# Altium footprint library D 电感.PcbLib: 18 footprints (part 2 of 2)
Each footprint in its own frame and in the unit in brackets; x right, y up, seen from the top. Pads: shape width x height; smd on the part's side, far side on the other; paste and mask are expansions set on the pad; w line width, h text height; cw(c..) or ccw(c..) is an arc to the next point about the centre after c.
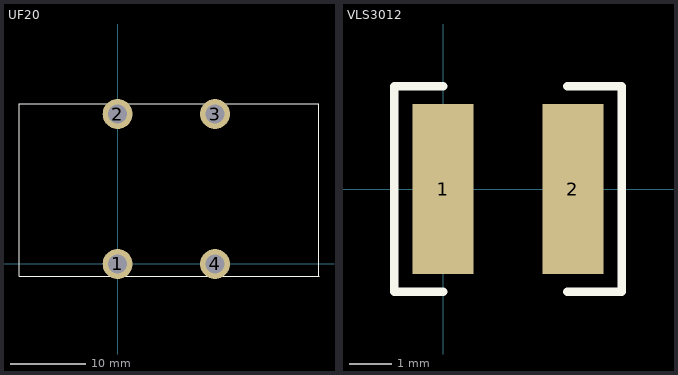
[diagram p1: the footprints below, top view; thin cyan lines are the x and y axes]

## UF20 [mm]
height 0.635
pads (4):
  round 4 hole 2.5: 1(0,0) 2(0,20) 3(13,20) 4(13,0)
Top Overlay:
  lines w0.127: -13.16,21.361 26.84,21.361 ; -13.157,-1.651 -13.157,21.349 ; -13.124,-1.651 26.876,-1.651 ; 26.873,-1.639 26.873,21.361

## VLS3012 [mm]
pads (2):
  rect 1.43x4 smd: 1(0,0) 2(3.048,0)
Top Overlay:
  lines w0.2: 0,-2.413 -1.143,-2.413 -1.143,2.413 0,2.413 ; 2.921,-2.413 4.191,-2.413 4.191,2.413 2.921,2.413